# Altium footprint library RECOM_R2SX.PcbLib: 1 footprints
Each footprint in its own frame and in the unit in brackets; x right, y up, seen from the top. Pads: shape width x height; smd on the part's side, far side on the other; paste and mask are expansions set on the pad; w line width, h text height; cw(c..) or ccw(c..) is an arc to the next point about the centre after c.
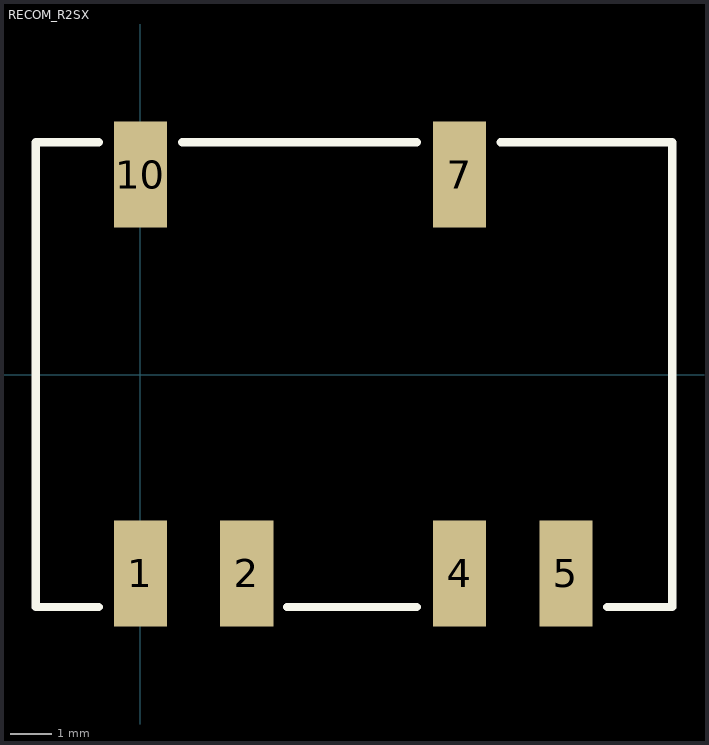
[diagram p0: the footprint, top view; thin cyan lines are the x and y axes]

## RECOM_R2SX [mm] "Recom Isolated Module"
pads (6):
  rect 1.27x2.54 smd: 1(0,-4.75) 2(2.54,-4.75) 4(7.62,-4.75) 5(10.16,-4.75) 7(7.62,4.78) 10(0,4.78)
Top Overlay:
  lines w0.2: -1,-5.55 -2.5,-5.55 -2.5,5.55 -1,5.55 ; 1,5.55 6.6,5.55 ; 3.5,-5.55 6.6,-5.55 ; 8.6,5.55 12.7,5.55 12.7,-5.55 11.15,-5.55
3D body "RECOM_R2SX-2415-H-R.STEP": height 7.55, standoff 0, extent -2.57,-5.55 12.77,5.55